# Altium footprint library SENSOR.PcbLib: 1 footprints
Each footprint in its own frame and in the unit in brackets; x right, y up, seen from the top. Pads: shape width x height; smd on the part's side, far side on the other; paste and mask are expansions set on the pad; w line width, h text height; cw(c..) or ccw(c..) is an arc to the next point about the centre after c.
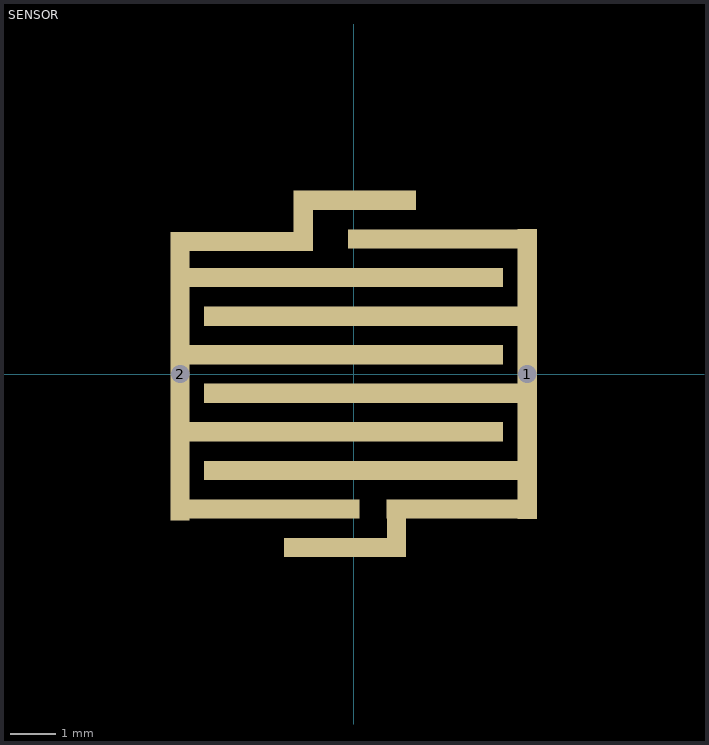
[diagram p0: the footprint, top view; thin cyan lines are the x and y axes]

## SENSOR [mm]
pads (18):
  round 0.4 hole 0.4: 1(3.789,0) 2(-3.789,0)
  rect 0.421x6.3 smd mask+0: ""(-3.789,-0.045)
  rect 2.833x0.421 smd mask+0: ""(-2.306,2.894)
  rect 3.81x0.421 smd mask+0: ""(-1.778,-2.948) ""(1.778,2.948)
  rect 0.421x0.889 smd mask+0: ""(-1.099,3.492) ""(0.933,-3.366)
  rect 6.947x0.421 smd mask+0: ""(-0.21,-1.263) ""(-0.21,0.421) ""(-0.21,2.106) ""(0.21,-2.106) ""(0.21,-0.421) ""(0.21,1.263)
  rect 2.667x0.421 smd mask+0: ""(-0.19,-3.79)
  rect 2.677x0.421 smd mask+0: ""(0.021,3.796)
  rect 3.001x0.421 smd mask+0: ""(2.222,-2.948)
  rect 0.421x6.33 smd mask+0: ""(3.789,0)